# Altium schematic symbol library yu0316-NSC_LDO.SchLib: 2590 symbols (part 39 of 64)
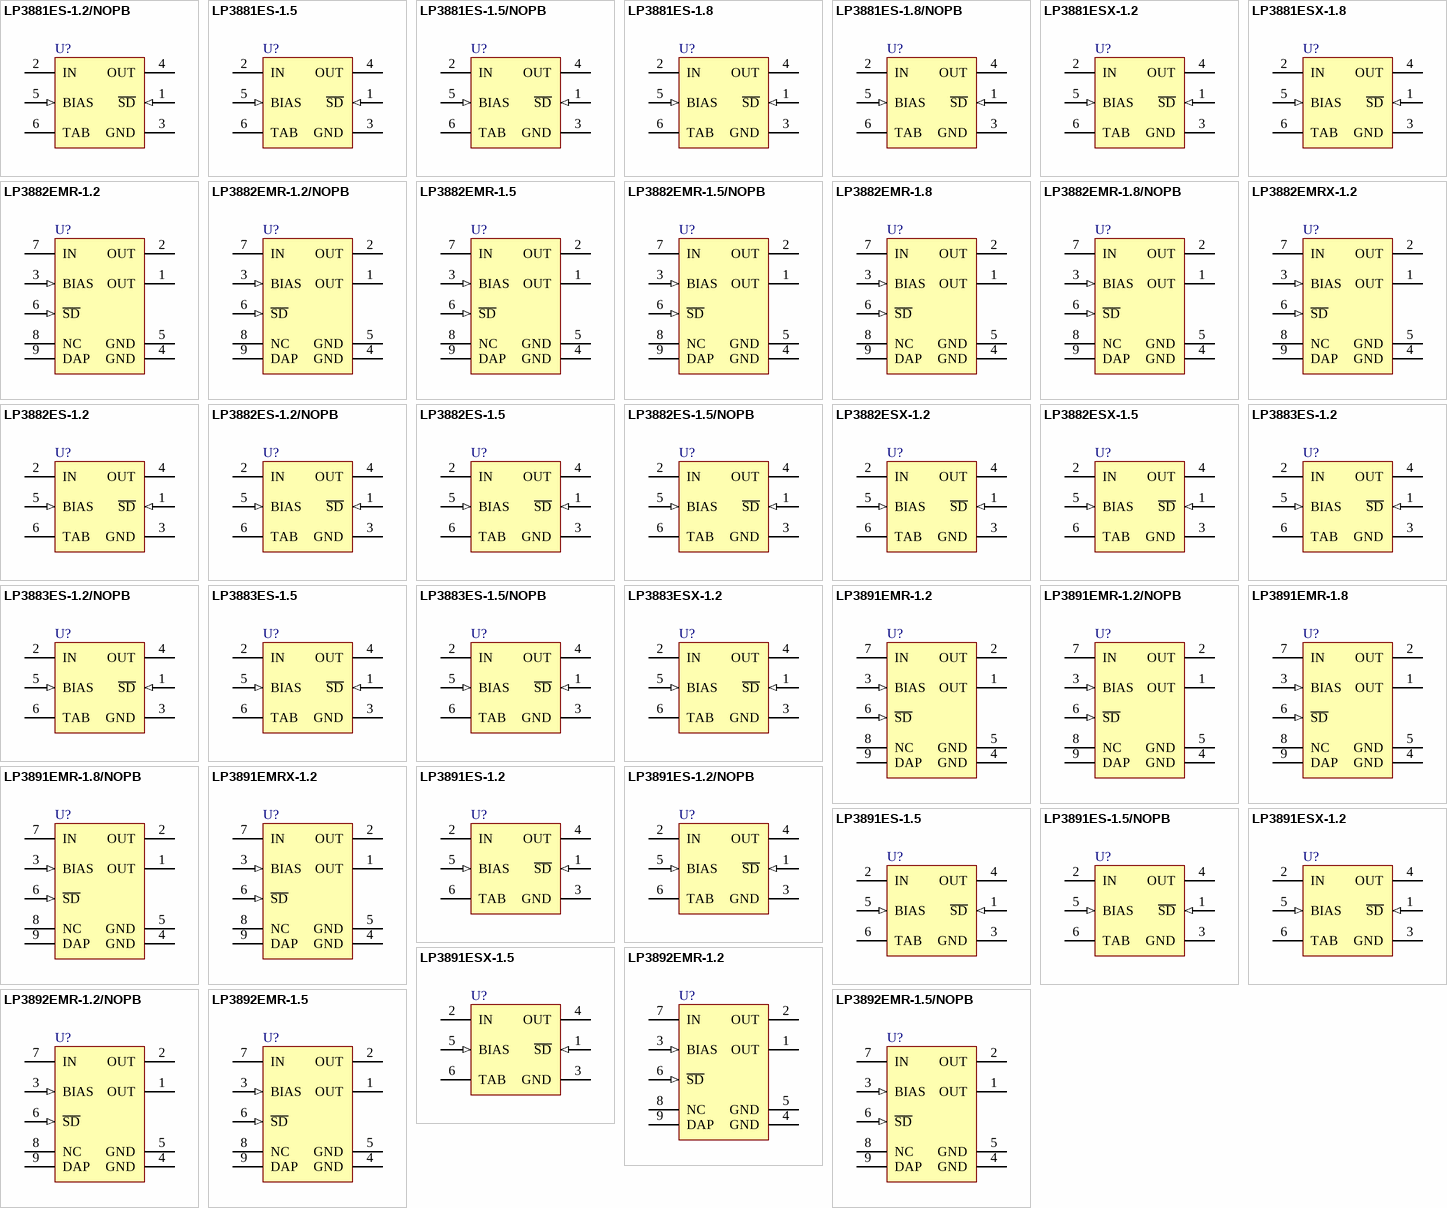
[diagram p103: symbols LP3881ES-1.2/NOPB to LP3892EMR-1.5/NOPB]

## LP3882ES-1.2/NOPB
designator U?
1.5A Fast-Response Ultra Low Dropout Linear Regulators, 5-pin TO-263, Pb-Free; PartNumber: LP3882ES-1.2/NOPB; Manufacturer: National Semiconductor; PackageTopMarking: NSUZXYTTE#*LP3882ES*-1.2; PowerWise: N; CompType: LDO IC; Published: 1-Mar-2010; DatasheetVersion: Jun-2006; PackageVersion: revD, Apr-2005; PackageReference: TS5B; Publisher: Altium Limited; PackageDescription: TO-263, Molded, .400 x .390 x .180in, 5 Lead, .067in Pitch, Surface Mount; Supplier 1: Digi-Key; Supplier Part Number 1: LP3882ES-1.2-ND; Supplier 2: Farnell; Supplier Part Number 2: 1559686; RoHS: Y; PinCount: 5; Code_JEDEC: MO-169-AB; ComponentLink1Description: LP3882 Datasheet; ComponentLink1URL: http://www.national.com/ds/LP/LP3882.pdf; ComponentLink2Description: LP3882 Web Page; ComponentLink2URL: http://www.national.com/pf/LP/LP3882.html; ComponentLink3Description: TS5B Package Page; ComponentLink3URL: http://www.national.com/packaging/folders/ts5b.html
footprint TS5B_N (D2-PAK, 6-Leads, Body 8.6x10.2mm, Pitch 1.7mm, Lead Span 14.1mm, IPC Medium Density)
footprint TS5B_L (D2-PAK, 6-Leads, Body 8.6x10.2mm, Pitch 1.7mm, Lead Span 14.1mm, IPC High Density)
footprint TS5B_M (D2-PAK, 6-Leads, Body 8.6x10.2mm, Pitch 1.7mm, Lead Span 14.1mm, IPC Low Density)
pins: 1 ~{SD} (in), 2 IN (power), 3 GND (power), 4 OUT (power), 5 BIAS (in), 6 TAB (power)

## LP3882ES-1.5
designator U?
1.5A Fast-Response Ultra Low Dropout Linear Regulators, 5-pin TO-263; PartNumber: LP3882ES-1.5; Manufacturer: National Semiconductor; PackageTopMarking: NSUZXYTTE#*LP3882ES*-1.5; PowerWise: N; CompType: LDO IC; Published: 4-Dec-2008; DatasheetVersion: Jun-2006; PackageVersion: revD, Apr-2005; PackageReference: TS5B; Publisher: Altium Limited; PackageDescription: TO-263, Molded, .400 x .390 x .180in, 5 Lead, .067in Pitch, Surface Mount; Supplier 1: Farnell; Supplier Part Number 1: 8207127; RoHS: N; PinCount: 5; Code_JEDEC: MO-169-AB; ComponentLink1Description: LP3882 Datasheet; ComponentLink1URL: http://www.national.com/ds/LP/LP3882.pdf; ComponentLink2Description: LP3882 Web Page; ComponentLink2URL: http://www.national.com/pf/LP/LP3882.html; ComponentLink3Description: TS5B Package Page; ComponentLink3URL: http://www.national.com/packaging/folders/ts5b.html
footprint TS5B_N (D2-PAK, 6-Leads, Body 8.6x10.2mm, Pitch 1.7mm, Lead Span 14.1mm, IPC Medium Density)
footprint TS5B_L (D2-PAK, 6-Leads, Body 8.6x10.2mm, Pitch 1.7mm, Lead Span 14.1mm, IPC High Density)
footprint TS5B_M (D2-PAK, 6-Leads, Body 8.6x10.2mm, Pitch 1.7mm, Lead Span 14.1mm, IPC Low Density)
pins: 1 ~{SD} (in), 2 IN (power), 3 GND (power), 4 OUT (power), 5 BIAS (in), 6 TAB (power)

## LP3882ES-1.5/NOPB
designator U?
1.5A Fast-Response Ultra Low Dropout Linear Regulators, 5-pin TO-263, Pb-Free; PartNumber: LP3882ES-1.5/NOPB; Manufacturer: National Semiconductor; PackageTopMarking: NSUZXYTTE#*LP3882ES*-1.5; PowerWise: N; CompType: LDO IC; Published: 1-Mar-2010; DatasheetVersion: Jun-2006; PackageVersion: revD, Apr-2005; PackageReference: TS5B; Publisher: Altium Limited; PackageDescription: TO-263, Molded, .400 x .390 x .180in, 5 Lead, .067in Pitch, Surface Mount; Supplier 1: Digi-Key; Supplier Part Number 1: LP3882ES-1.5-ND; RoHS: Y; PinCount: 5; Code_JEDEC: MO-169-AB; ComponentLink1Description: LP3882 Datasheet; ComponentLink1URL: http://www.national.com/ds/LP/LP3882.pdf; ComponentLink2Description: LP3882 Web Page; ComponentLink2URL: http://www.national.com/pf/LP/LP3882.html; ComponentLink3Description: TS5B Package Page; ComponentLink3URL: http://www.national.com/packaging/folders/ts5b.html
footprint TS5B_N (D2-PAK, 6-Leads, Body 8.6x10.2mm, Pitch 1.7mm, Lead Span 14.1mm, IPC Medium Density)
footprint TS5B_L (D2-PAK, 6-Leads, Body 8.6x10.2mm, Pitch 1.7mm, Lead Span 14.1mm, IPC High Density)
footprint TS5B_M (D2-PAK, 6-Leads, Body 8.6x10.2mm, Pitch 1.7mm, Lead Span 14.1mm, IPC Low Density)
pins: 1 ~{SD} (in), 2 IN (power), 3 GND (power), 4 OUT (power), 5 BIAS (in), 6 TAB (power)

## LP3882ESX-1.2
designator U?
1.5A Fast-Response Ultra Low Dropout Linear Regulators, 5-pin TO-263; PartNumber: LP3882ESX-1.2; Manufacturer: National Semiconductor; PackageTopMarking: NSUZXYTTE#*LP3882ES*-1.2; PowerWise: N; CompType: LDO IC; Published: 1-Mar-2010; DatasheetVersion: Jun-2006; PackageVersion: revD, Apr-2005; PackageReference: TS5B; Publisher: Altium Limited; PackageDescription: TO-263, Molded, .400 x .390 x .180in, 5 Lead, .067in Pitch, Surface Mount; RoHS: N; PinCount: 5; Code_JEDEC: MO-169-AB; ComponentLink1Description: LP3882 Datasheet; ComponentLink1URL: http://www.national.com/ds/LP/LP3882.pdf; ComponentLink2Description: LP3882 Web Page; ComponentLink2URL: http://www.national.com/pf/LP/LP3882.html; ComponentLink3Description: TS5B Package Page; ComponentLink3URL: http://www.national.com/packaging/folders/ts5b.html
footprint TS5B_N (D2-PAK, 6-Leads, Body 8.6x10.2mm, Pitch 1.7mm, Lead Span 14.1mm, IPC Medium Density)
footprint TS5B_L (D2-PAK, 6-Leads, Body 8.6x10.2mm, Pitch 1.7mm, Lead Span 14.1mm, IPC High Density)
footprint TS5B_M (D2-PAK, 6-Leads, Body 8.6x10.2mm, Pitch 1.7mm, Lead Span 14.1mm, IPC Low Density)
pins: 1 ~{SD} (in), 2 IN (power), 3 GND (power), 4 OUT (power), 5 BIAS (in), 6 TAB (power)

## LP3882ESX-1.5
designator U?
1.5A Fast-Response Ultra Low Dropout Linear Regulators, 5-pin TO-263; PartNumber: LP3882ESX-1.5; Manufacturer: National Semiconductor; PackageTopMarking: NSUZXYTTE#*LP3882ES*-1.5; PowerWise: N; CompType: LDO IC; Published: 1-Mar-2010; DatasheetVersion: Jun-2006; PackageVersion: revD, Apr-2005; PackageReference: TS5B; Publisher: Altium Limited; PackageDescription: TO-263, Molded, .400 x .390 x .180in, 5 Lead, .067in Pitch, Surface Mount; RoHS: N; PinCount: 5; Code_JEDEC: MO-169-AB; ComponentLink1Description: LP3882 Datasheet; ComponentLink1URL: http://www.national.com/ds/LP/LP3882.pdf; ComponentLink2Description: LP3882 Web Page; ComponentLink2URL: http://www.national.com/pf/LP/LP3882.html; ComponentLink3Description: TS5B Package Page; ComponentLink3URL: http://www.national.com/packaging/folders/ts5b.html
footprint TS5B_N (D2-PAK, 6-Leads, Body 8.6x10.2mm, Pitch 1.7mm, Lead Span 14.1mm, IPC Medium Density)
footprint TS5B_L (D2-PAK, 6-Leads, Body 8.6x10.2mm, Pitch 1.7mm, Lead Span 14.1mm, IPC High Density)
footprint TS5B_M (D2-PAK, 6-Leads, Body 8.6x10.2mm, Pitch 1.7mm, Lead Span 14.1mm, IPC Low Density)
pins: 1 ~{SD} (in), 2 IN (power), 3 GND (power), 4 OUT (power), 5 BIAS (in), 6 TAB (power)

## LP3883ES-1.2
designator U?
3A Fast-Response Ultra Low Dropout Linear Regulators, 5-pin TO-263; PartNumber: LP3883ES-1.2; Manufacturer: National Semiconductor; PackageTopMarking: NSUZXYTTE#*LP3883ES*-1.2; PowerWise: N; CompType: LDO IC; Published: 4-Dec-2008; DatasheetVersion: Feb-2006; PackageVersion: revD, Apr-2005; PackageReference: TS5B; Publisher: Altium Limited; PackageDescription: TO-263, Molded, .400 x .390 x .180in, 5 Lead, .067in Pitch, Surface Mount; Supplier 1: Farnell; Supplier Part Number 1: 8207178; RoHS: N; PinCount: 5; Code_JEDEC: MO-169-AB; ComponentLink1Description: LP3883 Datasheet; ComponentLink1URL: http://www.national.com/ds/LP/LP3883.pdf; ComponentLink2Description: LP3883 Web Page; ComponentLink2URL: http://www.national.com/pf/LP/LP3883.html; ComponentLink3Description: TS5B Package Page; ComponentLink3URL: http://www.national.com/packaging/folders/ts5b.html
footprint TS5B_N (D2-PAK, 6-Leads, Body 8.6x10.2mm, Pitch 1.7mm, Lead Span 14.1mm, IPC Medium Density)
footprint TS5B_L (D2-PAK, 6-Leads, Body 8.6x10.2mm, Pitch 1.7mm, Lead Span 14.1mm, IPC High Density)
footprint TS5B_M (D2-PAK, 6-Leads, Body 8.6x10.2mm, Pitch 1.7mm, Lead Span 14.1mm, IPC Low Density)
pins: 1 ~{SD} (in), 2 IN (power), 3 GND (power), 4 OUT (power), 5 BIAS (in), 6 TAB (power)

## LP3883ES-1.2/NOPB
designator U?
3A Fast-Response Ultra Low Dropout Linear Regulators, 5-pin TO-263, Pb-Free; PartNumber: LP3883ES-1.2/NOPB; Manufacturer: National Semiconductor; PackageTopMarking: NSUZXYTTE#*LP3883ES*-1.2; PowerWise: N; CompType: LDO IC; Published: 1-Mar-2010; DatasheetVersion: Feb-2006; PackageVersion: revD, Apr-2005; PackageReference: TS5B; Publisher: Altium Limited; PackageDescription: TO-263, Molded, .400 x .390 x .180in, 5 Lead, .067in Pitch, Surface Mount; Supplier 1: Digi-Key; Supplier Part Number 1: LP3883ES-1.2-ND; RoHS: Y; PinCount: 5; Code_JEDEC: MO-169-AB; ComponentLink1Description: LP3883 Datasheet; ComponentLink1URL: http://www.national.com/ds/LP/LP3883.pdf; ComponentLink2Description: LP3883 Web Page; ComponentLink2URL: http://www.national.com/pf/LP/LP3883.html; ComponentLink3Description: TS5B Package Page; ComponentLink3URL: http://www.national.com/packaging/folders/ts5b.html
footprint TS5B_N (D2-PAK, 6-Leads, Body 8.6x10.2mm, Pitch 1.7mm, Lead Span 14.1mm, IPC Medium Density)
footprint TS5B_L (D2-PAK, 6-Leads, Body 8.6x10.2mm, Pitch 1.7mm, Lead Span 14.1mm, IPC High Density)
footprint TS5B_M (D2-PAK, 6-Leads, Body 8.6x10.2mm, Pitch 1.7mm, Lead Span 14.1mm, IPC Low Density)
pins: 1 ~{SD} (in), 2 IN (power), 3 GND (power), 4 OUT (power), 5 BIAS (in), 6 TAB (power)

## LP3883ES-1.5
designator U?
3A Fast-Response Ultra Low Dropout Linear Regulators, 5-pin TO-263; PartNumber: LP3883ES-1.5; Manufacturer: National Semiconductor; PackageTopMarking: NSUZXYTTE#*LP3883ES*-1.5; PowerWise: N; CompType: LDO IC; Published: 4-Dec-2008; DatasheetVersion: Feb-2006; PackageVersion: revD, Apr-2005; PackageReference: TS5B; Publisher: Altium Limited; PackageDescription: TO-263, Molded, .400 x .390 x .180in, 5 Lead, .067in Pitch, Surface Mount; Supplier 1: Farnell; Supplier Part Number 1: 8207186; RoHS: N; PinCount: 5; Code_JEDEC: MO-169-AB; ComponentLink1Description: LP3883 Datasheet; ComponentLink1URL: http://www.national.com/ds/LP/LP3883.pdf; ComponentLink2Description: LP3883 Web Page; ComponentLink2URL: http://www.national.com/pf/LP/LP3883.html; ComponentLink3Description: TS5B Package Page; ComponentLink3URL: http://www.national.com/packaging/folders/ts5b.html
footprint TS5B_N (D2-PAK, 6-Leads, Body 8.6x10.2mm, Pitch 1.7mm, Lead Span 14.1mm, IPC Medium Density)
footprint TS5B_L (D2-PAK, 6-Leads, Body 8.6x10.2mm, Pitch 1.7mm, Lead Span 14.1mm, IPC High Density)
footprint TS5B_M (D2-PAK, 6-Leads, Body 8.6x10.2mm, Pitch 1.7mm, Lead Span 14.1mm, IPC Low Density)
pins: 1 ~{SD} (in), 2 IN (power), 3 GND (power), 4 OUT (power), 5 BIAS (in), 6 TAB (power)

## LP3883ES-1.5/NOPB
designator U?
3A Fast-Response Ultra Low Dropout Linear Regulators, 5-pin TO-263, Pb-Free; PartNumber: LP3883ES-1.5/NOPB; Manufacturer: National Semiconductor; PackageTopMarking: NSUZXYTTE#*LP3883ES*-1.5; PowerWise: N; CompType: LDO IC; Published: 1-Mar-2010; DatasheetVersion: Feb-2006; PackageVersion: revD, Apr-2005; PackageReference: TS5B; Publisher: Altium Limited; PackageDescription: TO-263, Molded, .400 x .390 x .180in, 5 Lead, .067in Pitch, Surface Mount; Supplier 1: Digi-Key; Supplier Part Number 1: LP3883ES-1.5-ND; RoHS: Y; PinCount: 5; Code_JEDEC: MO-169-AB; ComponentLink1Description: LP3883 Datasheet; ComponentLink1URL: http://www.national.com/ds/LP/LP3883.pdf; ComponentLink2Description: LP3883 Web Page; ComponentLink2URL: http://www.national.com/pf/LP/LP3883.html; ComponentLink3Description: TS5B Package Page; ComponentLink3URL: http://www.national.com/packaging/folders/ts5b.html
footprint TS5B_N (D2-PAK, 6-Leads, Body 8.6x10.2mm, Pitch 1.7mm, Lead Span 14.1mm, IPC Medium Density)
footprint TS5B_L (D2-PAK, 6-Leads, Body 8.6x10.2mm, Pitch 1.7mm, Lead Span 14.1mm, IPC High Density)
footprint TS5B_M (D2-PAK, 6-Leads, Body 8.6x10.2mm, Pitch 1.7mm, Lead Span 14.1mm, IPC Low Density)
pins: 1 ~{SD} (in), 2 IN (power), 3 GND (power), 4 OUT (power), 5 BIAS (in), 6 TAB (power)

## LP3883ESX-1.2
designator U?
3A Fast-Response Ultra Low Dropout Linear Regulators, 5-pin TO-263; PartNumber: LP3883ESX-1.2; Manufacturer: National Semiconductor; PackageTopMarking: NSUZXYTTE#*LP3883ES*-1.2; PowerWise: N; CompType: LDO IC; Published: 1-Mar-2010; DatasheetVersion: Feb-2006; PackageVersion: revD, Apr-2005; PackageReference: TS5B; Publisher: Altium Limited; PackageDescription: TO-263, Molded, .400 x .390 x .180in, 5 Lead, .067in Pitch, Surface Mount; Supplier 1: Digi-Key; Supplier Part Number 1: LP3883ESX-1.2-ND; RoHS: N; PinCount: 5; Code_JEDEC: MO-169-AB; ComponentLink1Description: LP3883 Datasheet; ComponentLink1URL: http://www.national.com/ds/LP/LP3883.pdf; ComponentLink2Description: LP3883 Web Page; ComponentLink2URL: http://www.national.com/pf/LP/LP3883.html; ComponentLink3Description: TS5B Package Page; ComponentLink3URL: http://www.national.com/packaging/folders/ts5b.html
footprint TS5B_N (D2-PAK, 6-Leads, Body 8.6x10.2mm, Pitch 1.7mm, Lead Span 14.1mm, IPC Medium Density)
footprint TS5B_L (D2-PAK, 6-Leads, Body 8.6x10.2mm, Pitch 1.7mm, Lead Span 14.1mm, IPC High Density)
footprint TS5B_M (D2-PAK, 6-Leads, Body 8.6x10.2mm, Pitch 1.7mm, Lead Span 14.1mm, IPC Low Density)
pins: 1 ~{SD} (in), 2 IN (power), 3 GND (power), 4 OUT (power), 5 BIAS (in), 6 TAB (power)

## LP3891EMR-1.2
designator U?
0.8A Fast-Response Ultra Low Dropout Linear Regulators, 8-pin PSOP; PartNumber: LP3891EMR-1.2; Manufacturer: National Semiconductor; PackageTopMarking: NSXYTT*3891E*MR1.2; PowerWise: N; CompType: LDO IC; Published: 4-Dec-2008; DatasheetVersion: Jun-2006; PackageVersion: revD, Dec-2007; PackageReference: MRA08A; Publisher: Altium Limited; PackageDescription: Molded, PSOP .193 x .154 x .058in, 8 Lead, .050in Pitch; Supplier 1: Farnell; Supplier Part Number 1: 1286964; RoHS: N; PinCount: 8; Code_JEDEC: MS-012-AA; ComponentLink1Description: LP3891 Datasheet; ComponentLink1URL: http://www.national.com/ds/LP/LP3891.pdf; ComponentLink2Description: LP3891 Web Page; ComponentLink2URL: http://www.national.com/pf/LP/LP3891.html; ComponentLink3Description: MRA08A Package Page; ComponentLink3URL: http://www.national.com/packaging/folders/mra08a.html
footprint MRA08A_N (SOIC, 8-Leads, Body 4.9x3.9mm, Pitch 1.27mm, Exposed Pad, IPC Medium Density)
footprint MRA08A_L (SOIC, 8-Leads, Body 4.9x3.9mm, Pitch 1.27mm, Exposed Pad, IPC High Density)
footprint MRA08A_M (SOIC, 8-Leads, Body 4.9x3.9mm, Pitch 1.27mm, Exposed Pad, IPC Low Density)
pins: 1 OUT (power), 2 OUT (power), 3 BIAS (in), 4 GND (power), 5 GND (power), 6 ~{SD} (in), 7 IN (power), 8 NC, 9 DAP (power)

## LP3891EMR-1.2/NOPB
designator U?
0.8A Fast-Response Ultra Low Dropout Linear Regulators, 8-pin PSOP, Pb-Free; PartNumber: LP3891EMR-1.2/NOPB; Manufacturer: National Semiconductor; PackageTopMarking: NSXYTT*3891E*MR1.2; PowerWise: N; CompType: LDO IC; Published: 1-Mar-2010; DatasheetVersion: Jun-2006; PackageVersion: revD, Dec-2007; PackageReference: MRA08A; Publisher: Altium Limited; PackageDescription: Molded, PSOP .193 x .154 x .058in, 8 Lead, .050in Pitch; Supplier 1: Digi-Key; Supplier Part Number 1: LP3891EMR-1.2-ND; Supplier 2: Farnell; Supplier Part Number 2: 1654327; RoHS: Y; PinCount: 8; Code_JEDEC: MS-012-AA; ComponentLink1Description: LP3891 Datasheet; ComponentLink1URL: http://www.national.com/ds/LP/LP3891.pdf; ComponentLink2Description: LP3891 Web Page; ComponentLink2URL: http://www.national.com/pf/LP/LP3891.html; ComponentLink3Description: MRA08A Package Page; ComponentLink3URL: http://www.national.com/packaging/folders/mra08a.html
footprint MRA08A_N (SOIC, 8-Leads, Body 4.9x3.9mm, Pitch 1.27mm, Exposed Pad, IPC Medium Density)
footprint MRA08A_L (SOIC, 8-Leads, Body 4.9x3.9mm, Pitch 1.27mm, Exposed Pad, IPC High Density)
footprint MRA08A_M (SOIC, 8-Leads, Body 4.9x3.9mm, Pitch 1.27mm, Exposed Pad, IPC Low Density)
pins: 1 OUT (power), 2 OUT (power), 3 BIAS (in), 4 GND (power), 5 GND (power), 6 ~{SD} (in), 7 IN (power), 8 NC, 9 DAP (power)

## LP3891EMR-1.8
designator U?
0.8A Fast-Response Ultra Low Dropout Linear Regulators, 8-pin PSOP; PartNumber: LP3891EMR-1.8; Manufacturer: National Semiconductor; PackageTopMarking: NSXYTT*3891E*MR1.8; PowerWise: N; CompType: LDO IC; Published: 4-Dec-2008; DatasheetVersion: Jun-2006; PackageVersion: revD, Dec-2007; PackageReference: MRA08A; Publisher: Altium Limited; PackageDescription: Molded, PSOP .193 x .154 x .058in, 8 Lead, .050in Pitch; Supplier 1: Farnell; Supplier Part Number 1: 1286967; RoHS: N; PinCount: 8; Code_JEDEC: MS-012-AA; ComponentLink1Description: LP3891 Datasheet; ComponentLink1URL: http://www.national.com/ds/LP/LP3891.pdf; ComponentLink2Description: LP3891 Web Page; ComponentLink2URL: http://www.national.com/pf/LP/LP3891.html; ComponentLink3Description: MRA08A Package Page; ComponentLink3URL: http://www.national.com/packaging/folders/mra08a.html
footprint MRA08A_N (SOIC, 8-Leads, Body 4.9x3.9mm, Pitch 1.27mm, Exposed Pad, IPC Medium Density)
footprint MRA08A_L (SOIC, 8-Leads, Body 4.9x3.9mm, Pitch 1.27mm, Exposed Pad, IPC High Density)
footprint MRA08A_M (SOIC, 8-Leads, Body 4.9x3.9mm, Pitch 1.27mm, Exposed Pad, IPC Low Density)
pins: 1 OUT (power), 2 OUT (power), 3 BIAS (in), 4 GND (power), 5 GND (power), 6 ~{SD} (in), 7 IN (power), 8 NC, 9 DAP (power)

## LP3891EMR-1.8/NOPB
designator U?
0.8A Fast-Response Ultra Low Dropout Linear Regulators, 8-pin PSOP, Pb-Free; PartNumber: LP3891EMR-1.8/NOPB; Manufacturer: National Semiconductor; PackageTopMarking: NSXYTT*3891E*MR1.8; PowerWise: N; CompType: LDO IC; Published: 1-Mar-2010; DatasheetVersion: Jun-2006; PackageVersion: revD, Dec-2007; PackageReference: MRA08A; Publisher: Altium Limited; PackageDescription: Molded, PSOP .193 x .154 x .058in, 8 Lead, .050in Pitch; Supplier 1: Digi-Key; Supplier Part Number 1: LP3891EMR-1.8-ND; RoHS: Y; PinCount: 8; Code_JEDEC: MS-012-AA; ComponentLink1Description: LP3891 Datasheet; ComponentLink1URL: http://www.national.com/ds/LP/LP3891.pdf; ComponentLink2Description: LP3891 Web Page; ComponentLink2URL: http://www.national.com/pf/LP/LP3891.html; ComponentLink3Description: MRA08A Package Page; ComponentLink3URL: http://www.national.com/packaging/folders/mra08a.html
footprint MRA08A_N (SOIC, 8-Leads, Body 4.9x3.9mm, Pitch 1.27mm, Exposed Pad, IPC Medium Density)
footprint MRA08A_L (SOIC, 8-Leads, Body 4.9x3.9mm, Pitch 1.27mm, Exposed Pad, IPC High Density)
footprint MRA08A_M (SOIC, 8-Leads, Body 4.9x3.9mm, Pitch 1.27mm, Exposed Pad, IPC Low Density)
pins: 1 OUT (power), 2 OUT (power), 3 BIAS (in), 4 GND (power), 5 GND (power), 6 ~{SD} (in), 7 IN (power), 8 NC, 9 DAP (power)

## LP3891EMRX-1.2
designator U?
0.8A Fast-Response Ultra Low Dropout Linear Regulators, 8-pin PSOP; PartNumber: LP3891EMRX-1.2; Manufacturer: National Semiconductor; PackageTopMarking: NSXYTT*3891E*MR1.2; PowerWise: N; CompType: LDO IC; Published: 1-Mar-2010; DatasheetVersion: Jun-2006; PackageVersion: revD, Dec-2007; PackageReference: MRA08A; Publisher: Altium Limited; PackageDescription: Molded, PSOP .193 x .154 x .058in, 8 Lead, .050in Pitch; RoHS: N; PinCount: 8; Code_JEDEC: MS-012-AA; ComponentLink1Description: LP3891 Datasheet; ComponentLink1URL: http://www.national.com/ds/LP/LP3891.pdf; ComponentLink2Description: LP3891 Web Page; ComponentLink2URL: http://www.national.com/pf/LP/LP3891.html; ComponentLink3Description: MRA08A Package Page; ComponentLink3URL: http://www.national.com/packaging/folders/mra08a.html
footprint MRA08A_N (SOIC, 8-Leads, Body 4.9x3.9mm, Pitch 1.27mm, Exposed Pad, IPC Medium Density)
footprint MRA08A_L (SOIC, 8-Leads, Body 4.9x3.9mm, Pitch 1.27mm, Exposed Pad, IPC High Density)
footprint MRA08A_M (SOIC, 8-Leads, Body 4.9x3.9mm, Pitch 1.27mm, Exposed Pad, IPC Low Density)
pins: 1 OUT (power), 2 OUT (power), 3 BIAS (in), 4 GND (power), 5 GND (power), 6 ~{SD} (in), 7 IN (power), 8 NC, 9 DAP (power)

## LP3891ES-1.2
designator U?
0.8A Fast-Response Ultra Low Dropout Linear Regulators, 5-pin TO-263; PartNumber: LP3891ES-1.2; Manufacturer: National Semiconductor; PackageTopMarking: NSUZXYTTE#*LP3891ES*-1.2; PowerWise: N; CompType: LDO IC; Published: 4-Dec-2008; DatasheetVersion: Jun-2006; PackageVersion: revD, Apr-2005; PackageReference: TS5B; Publisher: Altium Limited; PackageDescription: TO-263, Molded, .400 x .390 x .180in, 5 Lead, .067in Pitch, Surface Mount; Supplier 1: Farnell; Supplier Part Number 1: 1286968; RoHS: N; PinCount: 5; Code_JEDEC: MO-169-AB; ComponentLink1Description: LP3891 Datasheet; ComponentLink1URL: http://www.national.com/ds/LP/LP3891.pdf; ComponentLink2Description: LP3891 Web Page; ComponentLink2URL: http://www.national.com/pf/LP/LP3891.html; ComponentLink3Description: TS5B Package Page; ComponentLink3URL: http://www.national.com/packaging/folders/ts5b.html
footprint TS5B_N (D2-PAK, 6-Leads, Body 8.6x10.2mm, Pitch 1.7mm, Lead Span 14.1mm, IPC Medium Density)
footprint TS5B_L (D2-PAK, 6-Leads, Body 8.6x10.2mm, Pitch 1.7mm, Lead Span 14.1mm, IPC High Density)
footprint TS5B_M (D2-PAK, 6-Leads, Body 8.6x10.2mm, Pitch 1.7mm, Lead Span 14.1mm, IPC Low Density)
pins: 1 ~{SD} (in), 2 IN (power), 3 GND (power), 4 OUT (power), 5 BIAS (in), 6 TAB (power)

## LP3891ES-1.2/NOPB
designator U?
0.8A Fast-Response Ultra Low Dropout Linear Regulators, 5-pin TO-263, Pb-Free; PartNumber: LP3891ES-1.2/NOPB; Manufacturer: National Semiconductor; PackageTopMarking: NSUZXYTTE#*LP3891ES*-1.2; PowerWise: N; CompType: LDO IC; Published: 1-Mar-2010; DatasheetVersion: Jun-2006; PackageVersion: revD, Apr-2005; PackageReference: TS5B; Publisher: Altium Limited; PackageDescription: TO-263, Molded, .400 x .390 x .180in, 5 Lead, .067in Pitch, Surface Mount; Supplier 1: Digi-Key; Supplier Part Number 1: LP3891ES-1.2-ND; RoHS: Y; PinCount: 5; Code_JEDEC: MO-169-AB; ComponentLink1Description: LP3891 Datasheet; ComponentLink1URL: http://www.national.com/ds/LP/LP3891.pdf; ComponentLink2Description: LP3891 Web Page; ComponentLink2URL: http://www.national.com/pf/LP/LP3891.html; ComponentLink3Description: TS5B Package Page; ComponentLink3URL: http://www.national.com/packaging/folders/ts5b.html
footprint TS5B_N (D2-PAK, 6-Leads, Body 8.6x10.2mm, Pitch 1.7mm, Lead Span 14.1mm, IPC Medium Density)
footprint TS5B_L (D2-PAK, 6-Leads, Body 8.6x10.2mm, Pitch 1.7mm, Lead Span 14.1mm, IPC High Density)
footprint TS5B_M (D2-PAK, 6-Leads, Body 8.6x10.2mm, Pitch 1.7mm, Lead Span 14.1mm, IPC Low Density)
pins: 1 ~{SD} (in), 2 IN (power), 3 GND (power), 4 OUT (power), 5 BIAS (in), 6 TAB (power)

## LP3891ES-1.5
designator U?
0.8A Fast-Response Ultra Low Dropout Linear Regulators, 5-pin TO-263; PartNumber: LP3891ES-1.5; Manufacturer: National Semiconductor; PackageTopMarking: NSUZXYTTE#*LP3891ES*-1.5; PowerWise: N; CompType: LDO IC; Published: 4-Dec-2008; DatasheetVersion: Jun-2006; PackageVersion: revD, Apr-2005; PackageReference: TS5B; Publisher: Altium Limited; PackageDescription: TO-263, Molded, .400 x .390 x .180in, 5 Lead, .067in Pitch, Surface Mount; Supplier 1: Farnell; Supplier Part Number 1: 1286969; RoHS: N; PinCount: 5; Code_JEDEC: MO-169-AB; ComponentLink1Description: LP3891 Datasheet; ComponentLink1URL: http://www.national.com/ds/LP/LP3891.pdf; ComponentLink2Description: LP3891 Web Page; ComponentLink2URL: http://www.national.com/pf/LP/LP3891.html; ComponentLink3Description: TS5B Package Page; ComponentLink3URL: http://www.national.com/packaging/folders/ts5b.html
footprint TS5B_N (D2-PAK, 6-Leads, Body 8.6x10.2mm, Pitch 1.7mm, Lead Span 14.1mm, IPC Medium Density)
footprint TS5B_L (D2-PAK, 6-Leads, Body 8.6x10.2mm, Pitch 1.7mm, Lead Span 14.1mm, IPC High Density)
footprint TS5B_M (D2-PAK, 6-Leads, Body 8.6x10.2mm, Pitch 1.7mm, Lead Span 14.1mm, IPC Low Density)
pins: 1 ~{SD} (in), 2 IN (power), 3 GND (power), 4 OUT (power), 5 BIAS (in), 6 TAB (power)

## LP3891ES-1.5/NOPB
designator U?
0.8A Fast-Response Ultra Low Dropout Linear Regulators, 5-pin TO-263, Pb-Free; PartNumber: LP3891ES-1.5/NOPB; Manufacturer: National Semiconductor; PackageTopMarking: NSUZXYTTE#*LP3891ES*-1.5; PowerWise: N; CompType: LDO IC; Published: 1-Mar-2010; DatasheetVersion: Jun-2006; PackageVersion: revD, Apr-2005; PackageReference: TS5B; Publisher: Altium Limited; PackageDescription: TO-263, Molded, .400 x .390 x .180in, 5 Lead, .067in Pitch, Surface Mount; Supplier 1: Digi-Key; Supplier Part Number 1: LP3891ES-1.5-ND; RoHS: Y; PinCount: 5; Code_JEDEC: MO-169-AB; ComponentLink1Description: LP3891 Datasheet; ComponentLink1URL: http://www.national.com/ds/LP/LP3891.pdf; ComponentLink2Description: LP3891 Web Page; ComponentLink2URL: http://www.national.com/pf/LP/LP3891.html; ComponentLink3Description: TS5B Package Page; ComponentLink3URL: http://www.national.com/packaging/folders/ts5b.html
footprint TS5B_N (D2-PAK, 6-Leads, Body 8.6x10.2mm, Pitch 1.7mm, Lead Span 14.1mm, IPC Medium Density)
footprint TS5B_L (D2-PAK, 6-Leads, Body 8.6x10.2mm, Pitch 1.7mm, Lead Span 14.1mm, IPC High Density)
footprint TS5B_M (D2-PAK, 6-Leads, Body 8.6x10.2mm, Pitch 1.7mm, Lead Span 14.1mm, IPC Low Density)
pins: 1 ~{SD} (in), 2 IN (power), 3 GND (power), 4 OUT (power), 5 BIAS (in), 6 TAB (power)

## LP3891ESX-1.2
designator U?
0.8A Fast-Response Ultra Low Dropout Linear Regulators, 5-pin TO-263; PartNumber: LP3891ESX-1.2; Manufacturer: National Semiconductor; PackageTopMarking: NSUZXYTTE#*LP3891ES*-1.2; PowerWise: N; CompType: LDO IC; Published: 1-Mar-2010; DatasheetVersion: Jun-2006; PackageVersion: revD, Apr-2005; PackageReference: TS5B; Publisher: Altium Limited; PackageDescription: TO-263, Molded, .400 x .390 x .180in, 5 Lead, .067in Pitch, Surface Mount; RoHS: N; PinCount: 5; Code_JEDEC: MO-169-AB; ComponentLink1Description: LP3891 Datasheet; ComponentLink1URL: http://www.national.com/ds/LP/LP3891.pdf; ComponentLink2Description: LP3891 Web Page; ComponentLink2URL: http://www.national.com/pf/LP/LP3891.html; ComponentLink3Description: TS5B Package Page; ComponentLink3URL: http://www.national.com/packaging/folders/ts5b.html
footprint TS5B_N (D2-PAK, 6-Leads, Body 8.6x10.2mm, Pitch 1.7mm, Lead Span 14.1mm, IPC Medium Density)
footprint TS5B_L (D2-PAK, 6-Leads, Body 8.6x10.2mm, Pitch 1.7mm, Lead Span 14.1mm, IPC High Density)
footprint TS5B_M (D2-PAK, 6-Leads, Body 8.6x10.2mm, Pitch 1.7mm, Lead Span 14.1mm, IPC Low Density)
pins: 1 ~{SD} (in), 2 IN (power), 3 GND (power), 4 OUT (power), 5 BIAS (in), 6 TAB (power)

## LP3891ESX-1.5
designator U?
0.8A Fast-Response Ultra Low Dropout Linear Regulators, 5-pin TO-263; PartNumber: LP3891ESX-1.5; Manufacturer: National Semiconductor; PackageTopMarking: NSUZXYTTE#*LP3891ES*-1.5; PowerWise: N; CompType: LDO IC; Published: 1-Mar-2010; DatasheetVersion: Jun-2006; PackageVersion: revD, Apr-2005; PackageReference: TS5B; Publisher: Altium Limited; PackageDescription: TO-263, Molded, .400 x .390 x .180in, 5 Lead, .067in Pitch, Surface Mount; RoHS: N; PinCount: 5; Code_JEDEC: MO-169-AB; ComponentLink1Description: LP3891 Datasheet; ComponentLink1URL: http://www.national.com/ds/LP/LP3891.pdf; ComponentLink2Description: LP3891 Web Page; ComponentLink2URL: http://www.national.com/pf/LP/LP3891.html; ComponentLink3Description: TS5B Package Page; ComponentLink3URL: http://www.national.com/packaging/folders/ts5b.html
footprint TS5B_N (D2-PAK, 6-Leads, Body 8.6x10.2mm, Pitch 1.7mm, Lead Span 14.1mm, IPC Medium Density)
footprint TS5B_L (D2-PAK, 6-Leads, Body 8.6x10.2mm, Pitch 1.7mm, Lead Span 14.1mm, IPC High Density)
footprint TS5B_M (D2-PAK, 6-Leads, Body 8.6x10.2mm, Pitch 1.7mm, Lead Span 14.1mm, IPC Low Density)
pins: 1 ~{SD} (in), 2 IN (power), 3 GND (power), 4 OUT (power), 5 BIAS (in), 6 TAB (power)

## LP3892EMR-1.2
designator U?
1.5A Fast-Response Ultra Low Dropout Linear Regulators, 8-pin PSOP; PartNumber: LP3892EMR-1.2; Manufacturer: National Semiconductor; PackageTopMarking: NSXYTT*3892E*MR1.2; PowerWise: N; CompType: LDO IC; Published: 4-Dec-2008; DatasheetVersion: Jun-2006; PackageVersion: revD, Dec-2007; PackageReference: MRA08A; Publisher: Altium Limited; PackageDescription: Molded, PSOP .193 x .154 x .058in, 8 Lead, .050in Pitch; Supplier 1: Farnell; Supplier Part Number 1: 1286975; RoHS: N; PinCount: 8; Code_JEDEC: MS-012-AA; ComponentLink1Description: LP3892 Datasheet; ComponentLink1URL: http://www.national.com/ds/LP/LP3892.pdf; ComponentLink2Description: LP3892 Web Page; ComponentLink2URL: http://www.national.com/pf/LP/LP3892.html; ComponentLink3Description: MRA08A Package Page; ComponentLink3URL: http://www.national.com/packaging/folders/mra08a.html
footprint MRA08A_N (SOIC, 8-Leads, Body 4.9x3.9mm, Pitch 1.27mm, Exposed Pad, IPC Medium Density)
footprint MRA08A_L (SOIC, 8-Leads, Body 4.9x3.9mm, Pitch 1.27mm, Exposed Pad, IPC High Density)
footprint MRA08A_M (SOIC, 8-Leads, Body 4.9x3.9mm, Pitch 1.27mm, Exposed Pad, IPC Low Density)
pins: 1 OUT (power), 2 OUT (power), 3 BIAS (in), 4 GND (power), 5 GND (power), 6 ~{SD} (in), 7 IN (power), 8 NC, 9 DAP (power)

## LP3892EMR-1.2/NOPB
designator U?
1.5A Fast-Response Ultra Low Dropout Linear Regulators, 8-pin PSOP, Pb-Free; PartNumber: LP3892EMR-1.2/NOPB; Manufacturer: National Semiconductor; PackageTopMarking: NSXYTT*3892E*MR1.2; PowerWise: N; CompType: LDO IC; Published: 1-Mar-2010; DatasheetVersion: Jun-2006; PackageVersion: revD, Dec-2007; PackageReference: MRA08A; Publisher: Altium Limited; PackageDescription: Molded, PSOP .193 x .154 x .058in, 8 Lead, .050in Pitch; Supplier 1: Digi-Key; Supplier Part Number 1: LP3892EMR-1.2-ND; RoHS: Y; PinCount: 8; Code_JEDEC: MS-012-AA; ComponentLink1Description: LP3892 Datasheet; ComponentLink1URL: http://www.national.com/ds/LP/LP3892.pdf; ComponentLink2Description: LP3892 Web Page; ComponentLink2URL: http://www.national.com/pf/LP/LP3892.html; ComponentLink3Description: MRA08A Package Page; ComponentLink3URL: http://www.national.com/packaging/folders/mra08a.html
footprint MRA08A_N (SOIC, 8-Leads, Body 4.9x3.9mm, Pitch 1.27mm, Exposed Pad, IPC Medium Density)
footprint MRA08A_L (SOIC, 8-Leads, Body 4.9x3.9mm, Pitch 1.27mm, Exposed Pad, IPC High Density)
footprint MRA08A_M (SOIC, 8-Leads, Body 4.9x3.9mm, Pitch 1.27mm, Exposed Pad, IPC Low Density)
pins: 1 OUT (power), 2 OUT (power), 3 BIAS (in), 4 GND (power), 5 GND (power), 6 ~{SD} (in), 7 IN (power), 8 NC, 9 DAP (power)

## LP3892EMR-1.5
designator U?
1.5A Fast-Response Ultra Low Dropout Linear Regulators, 8-pin PSOP; PartNumber: LP3892EMR-1.5; Manufacturer: National Semiconductor; PackageTopMarking: NSXYTT*3892E*MR1.5; PowerWise: N; CompType: LDO IC; Published: 4-Dec-2008; DatasheetVersion: Jun-2006; PackageVersion: revD, Dec-2007; PackageReference: MRA08A; Publisher: Altium Limited; PackageDescription: Molded, PSOP .193 x .154 x .058in, 8 Lead, .050in Pitch; Supplier 1: Farnell; Supplier Part Number 1: 1286976; RoHS: N; PinCount: 8; Code_JEDEC: MS-012-AA; ComponentLink1Description: LP3892 Datasheet; ComponentLink1URL: http://www.national.com/ds/LP/LP3892.pdf; ComponentLink2Description: LP3892 Web Page; ComponentLink2URL: http://www.national.com/pf/LP/LP3892.html; ComponentLink3Description: MRA08A Package Page; ComponentLink3URL: http://www.national.com/packaging/folders/mra08a.html
footprint MRA08A_N (SOIC, 8-Leads, Body 4.9x3.9mm, Pitch 1.27mm, Exposed Pad, IPC Medium Density)
footprint MRA08A_L (SOIC, 8-Leads, Body 4.9x3.9mm, Pitch 1.27mm, Exposed Pad, IPC High Density)
footprint MRA08A_M (SOIC, 8-Leads, Body 4.9x3.9mm, Pitch 1.27mm, Exposed Pad, IPC Low Density)
pins: 1 OUT (power), 2 OUT (power), 3 BIAS (in), 4 GND (power), 5 GND (power), 6 ~{SD} (in), 7 IN (power), 8 NC, 9 DAP (power)

## LP3892EMR-1.5/NOPB
designator U?
1.5A Fast-Response Ultra Low Dropout Linear Regulators, 8-pin PSOP, Pb-Free; PartNumber: LP3892EMR-1.5/NOPB; Manufacturer: National Semiconductor; PackageTopMarking: NSXYTT*3892E*MR1.5; PowerWise: N; CompType: LDO IC; Published: 1-Mar-2010; DatasheetVersion: Jun-2006; PackageVersion: revD, Dec-2007; PackageReference: MRA08A; Publisher: Altium Limited; PackageDescription: Molded, PSOP .193 x .154 x .058in, 8 Lead, .050in Pitch; Supplier 1: Digi-Key; Supplier Part Number 1: LP3892EMR-1.5-ND; RoHS: Y; PinCount: 8; Code_JEDEC: MS-012-AA; ComponentLink1Description: LP3892 Datasheet; ComponentLink1URL: http://www.national.com/ds/LP/LP3892.pdf; ComponentLink2Description: LP3892 Web Page; ComponentLink2URL: http://www.national.com/pf/LP/LP3892.html; ComponentLink3Description: MRA08A Package Page; ComponentLink3URL: http://www.national.com/packaging/folders/mra08a.html
footprint MRA08A_N (SOIC, 8-Leads, Body 4.9x3.9mm, Pitch 1.27mm, Exposed Pad, IPC Medium Density)
footprint MRA08A_L (SOIC, 8-Leads, Body 4.9x3.9mm, Pitch 1.27mm, Exposed Pad, IPC High Density)
footprint MRA08A_M (SOIC, 8-Leads, Body 4.9x3.9mm, Pitch 1.27mm, Exposed Pad, IPC Low Density)
pins: 1 OUT (power), 2 OUT (power), 3 BIAS (in), 4 GND (power), 5 GND (power), 6 ~{SD} (in), 7 IN (power), 8 NC, 9 DAP (power)

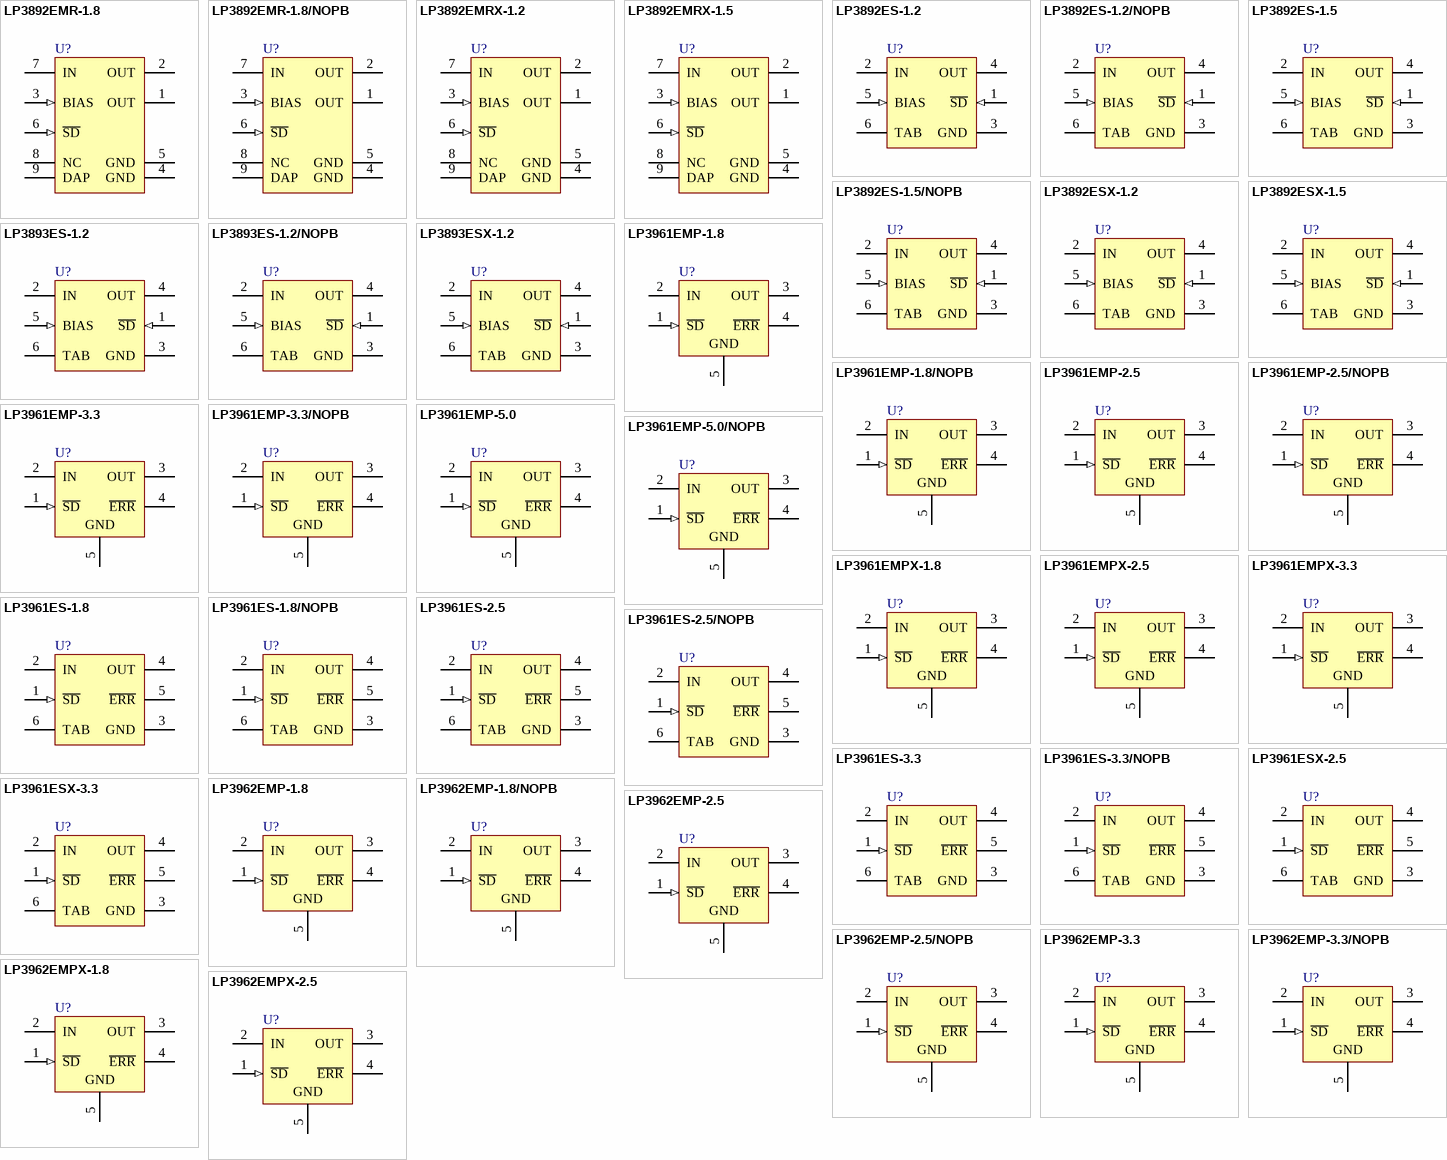
[diagram p40: symbols LP3892EMR-1.8 to LP3962EMPX-2.5]

## LP3892EMR-1.8
designator U?
1.5A Fast-Response Ultra Low Dropout Linear Regulators, 8-pin PSOP; PartNumber: LP3892EMR-1.8; Manufacturer: National Semiconductor; PackageTopMarking: NSXYTT*3892E*MR1.8; PowerWise: N; CompType: LDO IC; Published: 4-Dec-2008; DatasheetVersion: Jun-2006; PackageVersion: revD, Dec-2007; PackageReference: MRA08A; Publisher: Altium Limited; PackageDescription: Molded, PSOP .193 x .154 x .058in, 8 Lead, .050in Pitch; Supplier 1: Farnell; Supplier Part Number 1: 1286977; RoHS: N; PinCount: 8; Code_JEDEC: MS-012-AA; ComponentLink1Description: LP3892 Datasheet; ComponentLink1URL: http://www.national.com/ds/LP/LP3892.pdf; ComponentLink2Description: LP3892 Web Page; ComponentLink2URL: http://www.national.com/pf/LP/LP3892.html; ComponentLink3Description: MRA08A Package Page; ComponentLink3URL: http://www.national.com/packaging/folders/mra08a.html
footprint MRA08A_N (SOIC, 8-Leads, Body 4.9x3.9mm, Pitch 1.27mm, Exposed Pad, IPC Medium Density)
footprint MRA08A_L (SOIC, 8-Leads, Body 4.9x3.9mm, Pitch 1.27mm, Exposed Pad, IPC High Density)
footprint MRA08A_M (SOIC, 8-Leads, Body 4.9x3.9mm, Pitch 1.27mm, Exposed Pad, IPC Low Density)
pins: 1 OUT (power), 2 OUT (power), 3 BIAS (in), 4 GND (power), 5 GND (power), 6 ~{SD} (in), 7 IN (power), 8 NC, 9 DAP (power)

## LP3892EMR-1.8/NOPB
designator U?
1.5A Fast-Response Ultra Low Dropout Linear Regulators, 8-pin PSOP, Pb-Free; PartNumber: LP3892EMR-1.8/NOPB; Manufacturer: National Semiconductor; PackageTopMarking: NSXYTT*3892E*MR1.8; PowerWise: N; CompType: LDO IC; Published: 1-Mar-2010; DatasheetVersion: Jun-2006; PackageVersion: revD, Dec-2007; PackageReference: MRA08A; Publisher: Altium Limited; PackageDescription: Molded, PSOP .193 x .154 x .058in, 8 Lead, .050in Pitch; Supplier 1: Digi-Key; Supplier Part Number 1: LP3892EMR-1.8-ND; RoHS: Y; PinCount: 8; Code_JEDEC: MS-012-AA; ComponentLink1Description: LP3892 Datasheet; ComponentLink1URL: http://www.national.com/ds/LP/LP3892.pdf; ComponentLink2Description: LP3892 Web Page; ComponentLink2URL: http://www.national.com/pf/LP/LP3892.html; ComponentLink3Description: MRA08A Package Page; ComponentLink3URL: http://www.national.com/packaging/folders/mra08a.html
footprint MRA08A_N (SOIC, 8-Leads, Body 4.9x3.9mm, Pitch 1.27mm, Exposed Pad, IPC Medium Density)
footprint MRA08A_L (SOIC, 8-Leads, Body 4.9x3.9mm, Pitch 1.27mm, Exposed Pad, IPC High Density)
footprint MRA08A_M (SOIC, 8-Leads, Body 4.9x3.9mm, Pitch 1.27mm, Exposed Pad, IPC Low Density)
pins: 1 OUT (power), 2 OUT (power), 3 BIAS (in), 4 GND (power), 5 GND (power), 6 ~{SD} (in), 7 IN (power), 8 NC, 9 DAP (power)

## LP3892EMRX-1.2
designator U?
1.5A Fast-Response Ultra Low Dropout Linear Regulators, 8-pin PSOP; PartNumber: LP3892EMRX-1.2; Manufacturer: National Semiconductor; PackageTopMarking: NSXYTT*3892E*MR1.2; PowerWise: N; CompType: LDO IC; Published: 1-Mar-2010; DatasheetVersion: Jun-2006; PackageVersion: revD, Dec-2007; PackageReference: MRA08A; Publisher: Altium Limited; PackageDescription: Molded, PSOP .193 x .154 x .058in, 8 Lead, .050in Pitch; RoHS: N; PinCount: 8; Code_JEDEC: MS-012-AA; ComponentLink1Description: LP3892 Datasheet; ComponentLink1URL: http://www.national.com/ds/LP/LP3892.pdf; ComponentLink2Description: LP3892 Web Page; ComponentLink2URL: http://www.national.com/pf/LP/LP3892.html; ComponentLink3Description: MRA08A Package Page; ComponentLink3URL: http://www.national.com/packaging/folders/mra08a.html
footprint MRA08A_N (SOIC, 8-Leads, Body 4.9x3.9mm, Pitch 1.27mm, Exposed Pad, IPC Medium Density)
footprint MRA08A_L (SOIC, 8-Leads, Body 4.9x3.9mm, Pitch 1.27mm, Exposed Pad, IPC High Density)
footprint MRA08A_M (SOIC, 8-Leads, Body 4.9x3.9mm, Pitch 1.27mm, Exposed Pad, IPC Low Density)
pins: 1 OUT (power), 2 OUT (power), 3 BIAS (in), 4 GND (power), 5 GND (power), 6 ~{SD} (in), 7 IN (power), 8 NC, 9 DAP (power)

## LP3892EMRX-1.5
designator U?
1.5A Fast-Response Ultra Low Dropout Linear Regulators, 8-pin PSOP; PartNumber: LP3892EMRX-1.5; Manufacturer: National Semiconductor; PackageTopMarking: NSXYTT*3892E*MR1.5; PowerWise: N; CompType: LDO IC; Published: 1-Mar-2010; DatasheetVersion: Jun-2006; PackageVersion: revD, Dec-2007; PackageReference: MRA08A; Publisher: Altium Limited; PackageDescription: Molded, PSOP .193 x .154 x .058in, 8 Lead, .050in Pitch; RoHS: N; PinCount: 8; Code_JEDEC: MS-012-AA; ComponentLink1Description: LP3892 Datasheet; ComponentLink1URL: http://www.national.com/ds/LP/LP3892.pdf; ComponentLink2Description: LP3892 Web Page; ComponentLink2URL: http://www.national.com/pf/LP/LP3892.html; ComponentLink3Description: MRA08A Package Page; ComponentLink3URL: http://www.national.com/packaging/folders/mra08a.html
footprint MRA08A_N (SOIC, 8-Leads, Body 4.9x3.9mm, Pitch 1.27mm, Exposed Pad, IPC Medium Density)
footprint MRA08A_L (SOIC, 8-Leads, Body 4.9x3.9mm, Pitch 1.27mm, Exposed Pad, IPC High Density)
footprint MRA08A_M (SOIC, 8-Leads, Body 4.9x3.9mm, Pitch 1.27mm, Exposed Pad, IPC Low Density)
pins: 1 OUT (power), 2 OUT (power), 3 BIAS (in), 4 GND (power), 5 GND (power), 6 ~{SD} (in), 7 IN (power), 8 NC, 9 DAP (power)

## LP3892ES-1.2
designator U?
1.5A Fast-Response Ultra Low Dropout Linear Regulators, 5-pin TO-263; PartNumber: LP3892ES-1.2; Manufacturer: National Semiconductor; PackageTopMarking: NSUZXYTTE#*LP3892ES*-1.2; PowerWise: N; CompType: LDO IC; Published: 4-Dec-2008; DatasheetVersion: Jun-2006; PackageVersion: revD, Apr-2005; PackageReference: TS5B; Publisher: Altium Limited; PackageDescription: TO-263, Molded, .400 x .390 x .180in, 5 Lead, .067in Pitch, Surface Mount; Supplier 1: Farnell; Supplier Part Number 1: 1286978; RoHS: N; PinCount: 5; Code_JEDEC: MO-169-AB; ComponentLink1Description: LP3892 Datasheet; ComponentLink1URL: http://www.national.com/ds/LP/LP3892.pdf; ComponentLink2Description: LP3892 Web Page; ComponentLink2URL: http://www.national.com/pf/LP/LP3892.html; ComponentLink3Description: TS5B Package Page; ComponentLink3URL: http://www.national.com/packaging/folders/ts5b.html
footprint TS5B_N (D2-PAK, 6-Leads, Body 8.6x10.2mm, Pitch 1.7mm, Lead Span 14.1mm, IPC Medium Density)
footprint TS5B_L (D2-PAK, 6-Leads, Body 8.6x10.2mm, Pitch 1.7mm, Lead Span 14.1mm, IPC High Density)
footprint TS5B_M (D2-PAK, 6-Leads, Body 8.6x10.2mm, Pitch 1.7mm, Lead Span 14.1mm, IPC Low Density)
pins: 1 ~{SD} (in), 2 IN (power), 3 GND (power), 4 OUT (power), 5 BIAS (in), 6 TAB (power)

## LP3892ES-1.2/NOPB
designator U?
1.5A Fast-Response Ultra Low Dropout Linear Regulators, 5-pin TO-263, Pb-Free; PartNumber: LP3892ES-1.2/NOPB; Manufacturer: National Semiconductor; PackageTopMarking: NSUZXYTTE#*LP3892ES*-1.2; PowerWise: N; CompType: LDO IC; Published: 1-Mar-2010; DatasheetVersion: Jun-2006; PackageVersion: revD, Apr-2005; PackageReference: TS5B; Publisher: Altium Limited; PackageDescription: TO-263, Molded, .400 x .390 x .180in, 5 Lead, .067in Pitch, Surface Mount; Supplier 1: Digi-Key; Supplier Part Number 1: LP3892ES-1.2-ND; Supplier 2: Farnell; Supplier Part Number 2: 1654328; RoHS: Y; PinCount: 5; Code_JEDEC: MO-169-AB; ComponentLink1Description: LP3892 Datasheet; ComponentLink1URL: http://www.national.com/ds/LP/LP3892.pdf; ComponentLink2Description: LP3892 Web Page; ComponentLink2URL: http://www.national.com/pf/LP/LP3892.html; ComponentLink3Description: TS5B Package Page; ComponentLink3URL: http://www.national.com/packaging/folders/ts5b.html
footprint TS5B_N (D2-PAK, 6-Leads, Body 8.6x10.2mm, Pitch 1.7mm, Lead Span 14.1mm, IPC Medium Density)
footprint TS5B_L (D2-PAK, 6-Leads, Body 8.6x10.2mm, Pitch 1.7mm, Lead Span 14.1mm, IPC High Density)
footprint TS5B_M (D2-PAK, 6-Leads, Body 8.6x10.2mm, Pitch 1.7mm, Lead Span 14.1mm, IPC Low Density)
pins: 1 ~{SD} (in), 2 IN (power), 3 GND (power), 4 OUT (power), 5 BIAS (in), 6 TAB (power)

## LP3892ES-1.5
designator U?
1.5A Fast-Response Ultra Low Dropout Linear Regulators, 5-pin TO-263; PartNumber: LP3892ES-1.5; Manufacturer: National Semiconductor; PackageTopMarking: NSUZXYTTE#*LP3892ES*-1.5; PowerWise: N; CompType: LDO IC; Published: 4-Dec-2008; DatasheetVersion: Jun-2006; PackageVersion: revD, Apr-2005; PackageReference: TS5B; Publisher: Altium Limited; PackageDescription: TO-263, Molded, .400 x .390 x .180in, 5 Lead, .067in Pitch, Surface Mount; Supplier 1: Farnell; Supplier Part Number 1: 8207232; RoHS: N; PinCount: 5; Code_JEDEC: MO-169-AB; ComponentLink1Description: LP3892 Datasheet; ComponentLink1URL: http://www.national.com/ds/LP/LP3892.pdf; ComponentLink2Description: LP3892 Web Page; ComponentLink2URL: http://www.national.com/pf/LP/LP3892.html; ComponentLink3Description: TS5B Package Page; ComponentLink3URL: http://www.national.com/packaging/folders/ts5b.html
footprint TS5B_N (D2-PAK, 6-Leads, Body 8.6x10.2mm, Pitch 1.7mm, Lead Span 14.1mm, IPC Medium Density)
footprint TS5B_L (D2-PAK, 6-Leads, Body 8.6x10.2mm, Pitch 1.7mm, Lead Span 14.1mm, IPC High Density)
footprint TS5B_M (D2-PAK, 6-Leads, Body 8.6x10.2mm, Pitch 1.7mm, Lead Span 14.1mm, IPC Low Density)
pins: 1 ~{SD} (in), 2 IN (power), 3 GND (power), 4 OUT (power), 5 BIAS (in), 6 TAB (power)

## LP3892ES-1.5/NOPB
designator U?
1.5A Fast-Response Ultra Low Dropout Linear Regulators, 5-pin TO-263, Pb-Free; PartNumber: LP3892ES-1.5/NOPB; Manufacturer: National Semiconductor; PackageTopMarking: NSUZXYTTE#*LP3892ES*-1.5; PowerWise: N; CompType: LDO IC; Published: 1-Mar-2010; DatasheetVersion: Jun-2006; PackageVersion: revD, Apr-2005; PackageReference: TS5B; Publisher: Altium Limited; PackageDescription: TO-263, Molded, .400 x .390 x .180in, 5 Lead, .067in Pitch, Surface Mount; Supplier 1: Digi-Key; Supplier Part Number 1: LP3892ES-1.5-ND; RoHS: Y; PinCount: 5; Code_JEDEC: MO-169-AB; ComponentLink1Description: LP3892 Datasheet; ComponentLink1URL: http://www.national.com/ds/LP/LP3892.pdf; ComponentLink2Description: LP3892 Web Page; ComponentLink2URL: http://www.national.com/pf/LP/LP3892.html; ComponentLink3Description: TS5B Package Page; ComponentLink3URL: http://www.national.com/packaging/folders/ts5b.html
footprint TS5B_N (D2-PAK, 6-Leads, Body 8.6x10.2mm, Pitch 1.7mm, Lead Span 14.1mm, IPC Medium Density)
footprint TS5B_L (D2-PAK, 6-Leads, Body 8.6x10.2mm, Pitch 1.7mm, Lead Span 14.1mm, IPC High Density)
footprint TS5B_M (D2-PAK, 6-Leads, Body 8.6x10.2mm, Pitch 1.7mm, Lead Span 14.1mm, IPC Low Density)
pins: 1 ~{SD} (in), 2 IN (power), 3 GND (power), 4 OUT (power), 5 BIAS (in), 6 TAB (power)

## LP3892ESX-1.2
designator U?
1.5A Fast-Response Ultra Low Dropout Linear Regulators, 5-pin TO-263; PartNumber: LP3892ESX-1.2; Manufacturer: National Semiconductor; PackageTopMarking: NSUZXYTTE#*LP3892ES*-1.2; PowerWise: N; CompType: LDO IC; Published: 1-Mar-2010; DatasheetVersion: Jun-2006; PackageVersion: revD, Apr-2005; PackageReference: TS5B; Publisher: Altium Limited; PackageDescription: TO-263, Molded, .400 x .390 x .180in, 5 Lead, .067in Pitch, Surface Mount; RoHS: N; PinCount: 5; Code_JEDEC: MO-169-AB; ComponentLink1Description: LP3892 Datasheet; ComponentLink1URL: http://www.national.com/ds/LP/LP3892.pdf; ComponentLink2Description: LP3892 Web Page; ComponentLink2URL: http://www.national.com/pf/LP/LP3892.html; ComponentLink3Description: TS5B Package Page; ComponentLink3URL: http://www.national.com/packaging/folders/ts5b.html
footprint TS5B_N (D2-PAK, 6-Leads, Body 8.6x10.2mm, Pitch 1.7mm, Lead Span 14.1mm, IPC Medium Density)
footprint TS5B_L (D2-PAK, 6-Leads, Body 8.6x10.2mm, Pitch 1.7mm, Lead Span 14.1mm, IPC High Density)
footprint TS5B_M (D2-PAK, 6-Leads, Body 8.6x10.2mm, Pitch 1.7mm, Lead Span 14.1mm, IPC Low Density)
pins: 1 ~{SD} (in), 2 IN (power), 3 GND (power), 4 OUT (power), 5 BIAS (in), 6 TAB (power)

## LP3892ESX-1.5
designator U?
1.5A Fast-Response Ultra Low Dropout Linear Regulators, 5-pin TO-263; PartNumber: LP3892ESX-1.5; Manufacturer: National Semiconductor; PackageTopMarking: NSUZXYTTE#*LP3892ES*-1.5; PowerWise: N; CompType: LDO IC; Published: 1-Mar-2010; DatasheetVersion: Jun-2006; PackageVersion: revD, Apr-2005; PackageReference: TS5B; Publisher: Altium Limited; PackageDescription: TO-263, Molded, .400 x .390 x .180in, 5 Lead, .067in Pitch, Surface Mount; RoHS: N; PinCount: 5; Code_JEDEC: MO-169-AB; ComponentLink1Description: LP3892 Datasheet; ComponentLink1URL: http://www.national.com/ds/LP/LP3892.pdf; ComponentLink2Description: LP3892 Web Page; ComponentLink2URL: http://www.national.com/pf/LP/LP3892.html; ComponentLink3Description: TS5B Package Page; ComponentLink3URL: http://www.national.com/packaging/folders/ts5b.html
footprint TS5B_N (D2-PAK, 6-Leads, Body 8.6x10.2mm, Pitch 1.7mm, Lead Span 14.1mm, IPC Medium Density)
footprint TS5B_L (D2-PAK, 6-Leads, Body 8.6x10.2mm, Pitch 1.7mm, Lead Span 14.1mm, IPC High Density)
footprint TS5B_M (D2-PAK, 6-Leads, Body 8.6x10.2mm, Pitch 1.7mm, Lead Span 14.1mm, IPC Low Density)
pins: 1 ~{SD} (in), 2 IN (power), 3 GND (power), 4 OUT (power), 5 BIAS (in), 6 TAB (power)

## LP3893ES-1.2
designator U?
3A Fast-Response Ultra Low Dropout Linear Regulators, 5-pin TO-263; PartNumber: LP3893ES-1.2; Manufacturer: National Semiconductor; PackageTopMarking: NSUZXYTTE#*LP3893ES*-1.2; PowerWise: N; CompType: LDO IC; Published: 4-Dec-2008; DatasheetVersion: Jun-2005; PackageVersion: revD, Apr-2005; PackageReference: TS5B; Publisher: Altium Limited; PackageDescription: TO-263, Molded, .400 x .390 x .180in, 5 Lead, .067in Pitch, Surface Mount; Supplier 1: Farnell; Supplier Part Number 1: 1286983; RoHS: N; PinCount: 5; Code_JEDEC: MO-169-AB; ComponentLink1Description: LP3893 Datasheet; ComponentLink1URL: http://www.national.com/ds/LP/LP3893.pdf; ComponentLink2Description: LP3893 Web Page; ComponentLink2URL: http://www.national.com/pf/LP/LP3893.html; ComponentLink3Description: TS5B Package Page; ComponentLink3URL: http://www.national.com/packaging/folders/ts5b.html
footprint TS5B_N (D2-PAK, 6-Leads, Body 8.6x10.2mm, Pitch 1.7mm, Lead Span 14.1mm, IPC Medium Density)
footprint TS5B_L (D2-PAK, 6-Leads, Body 8.6x10.2mm, Pitch 1.7mm, Lead Span 14.1mm, IPC High Density)
footprint TS5B_M (D2-PAK, 6-Leads, Body 8.6x10.2mm, Pitch 1.7mm, Lead Span 14.1mm, IPC Low Density)
pins: 1 ~{SD} (in), 2 IN (power), 3 GND (power), 4 OUT (power), 5 BIAS (in), 6 TAB (power)

## LP3893ES-1.2/NOPB
designator U?
3A Fast-Response Ultra Low Dropout Linear Regulators, 5-pin TO-263, Pb-Free; PartNumber: LP3893ES-1.2/NOPB; Manufacturer: National Semiconductor; PackageTopMarking: NSUZXYTTE#*LP3893ES*-1.2; PowerWise: N; CompType: LDO IC; Published: 1-Mar-2010; DatasheetVersion: Jun-2005; PackageVersion: revD, Apr-2005; PackageReference: TS5B; Publisher: Altium Limited; PackageDescription: TO-263, Molded, .400 x .390 x .180in, 5 Lead, .067in Pitch, Surface Mount; Supplier 1: Digi-Key; Supplier Part Number 1: LP3893ES-1.2-ND; Supplier 2: Farnell; Supplier Part Number 2: 1654331; RoHS: Y; PinCount: 5; Code_JEDEC: MO-169-AB; ComponentLink1Description: LP3893 Datasheet; ComponentLink1URL: http://www.national.com/ds/LP/LP3893.pdf; ComponentLink2Description: LP3893 Web Page; ComponentLink2URL: http://www.national.com/pf/LP/LP3893.html; ComponentLink3Description: TS5B Package Page; ComponentLink3URL: http://www.national.com/packaging/folders/ts5b.html
footprint TS5B_N (D2-PAK, 6-Leads, Body 8.6x10.2mm, Pitch 1.7mm, Lead Span 14.1mm, IPC Medium Density)
footprint TS5B_L (D2-PAK, 6-Leads, Body 8.6x10.2mm, Pitch 1.7mm, Lead Span 14.1mm, IPC High Density)
footprint TS5B_M (D2-PAK, 6-Leads, Body 8.6x10.2mm, Pitch 1.7mm, Lead Span 14.1mm, IPC Low Density)
pins: 1 ~{SD} (in), 2 IN (power), 3 GND (power), 4 OUT (power), 5 BIAS (in), 6 TAB (power)

## LP3893ESX-1.2
designator U?
3A Fast-Response Ultra Low Dropout Linear Regulators, 5-pin TO-263; PartNumber: LP3893ESX-1.2; Manufacturer: National Semiconductor; PackageTopMarking: NSUZXYTTE#*LP3893ES*-1.2; PowerWise: N; CompType: LDO IC; Published: 1-Mar-2010; DatasheetVersion: Jun-2005; PackageVersion: revD, Apr-2005; PackageReference: TS5B; Publisher: Altium Limited; PackageDescription: TO-263, Molded, .400 x .390 x .180in, 5 Lead, .067in Pitch, Surface Mount; RoHS: N; PinCount: 5; Code_JEDEC: MO-169-AB; ComponentLink1Description: LP3893 Datasheet; ComponentLink1URL: http://www.national.com/ds/LP/LP3893.pdf; ComponentLink2Description: LP3893 Web Page; ComponentLink2URL: http://www.national.com/pf/LP/LP3893.html; ComponentLink3Description: TS5B Package Page; ComponentLink3URL: http://www.national.com/packaging/folders/ts5b.html
footprint TS5B_N (D2-PAK, 6-Leads, Body 8.6x10.2mm, Pitch 1.7mm, Lead Span 14.1mm, IPC Medium Density)
footprint TS5B_L (D2-PAK, 6-Leads, Body 8.6x10.2mm, Pitch 1.7mm, Lead Span 14.1mm, IPC High Density)
footprint TS5B_M (D2-PAK, 6-Leads, Body 8.6x10.2mm, Pitch 1.7mm, Lead Span 14.1mm, IPC Low Density)
pins: 1 ~{SD} (in), 2 IN (power), 3 GND (power), 4 OUT (power), 5 BIAS (in), 6 TAB (power)